# Altium schematic symbol library pi_powerhat.SchLib: 15 symbols
Pins are listed as number, name and electrical type; pins without a type are passive.

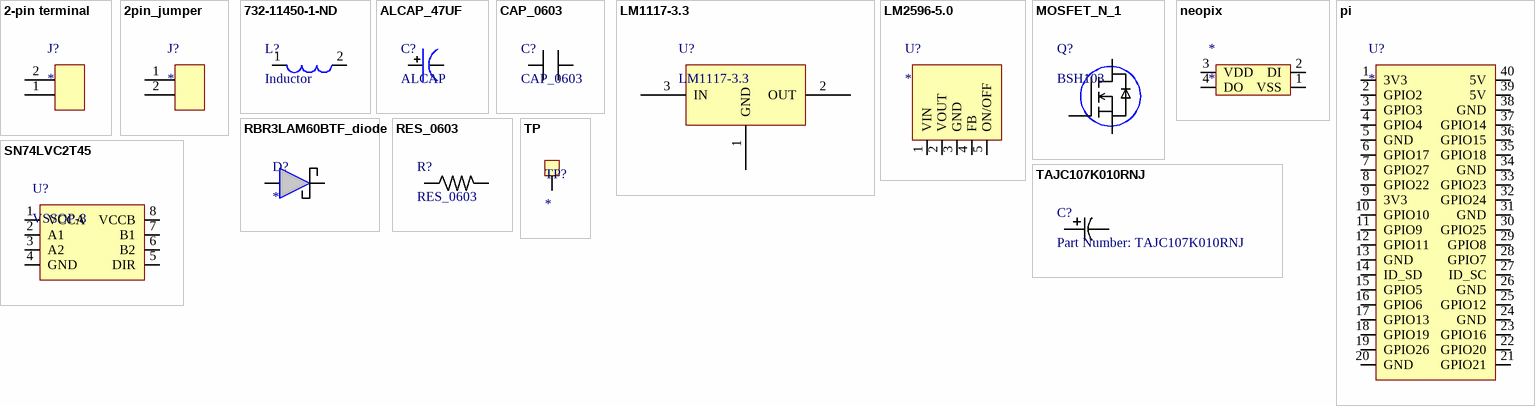
[diagram p0: symbols 2-pin terminal to TP]

## 2-pin terminal
designator J?
footprint 2-pin terminal
pins: 1, 2

## 2pin_jumper
designator J?
footprint 2pin_jumper
pins: 1, 2

## 732-11450-1-ND
designator L?, comment Inductor
ComponentLink1Description: 732-11450-1-ND; ComponentLink1URL: https://www.digikey.com/product-detail/en/w-rth-elektronik/744373965470/732-11450-1-ND/7323676
footprint 732-11450-1-ND
pins: 1, 2

## ALCAP_47UF
designator C?, comment ALCAP
ComponentLink1Description: EEUFR1J470; ComponentLink1URL: https://www.digikey.com/product-detail/en/panasonic-electronic-components/EEU-FR1J470/P15400-ND/3072280
footprint alcap-560uF
pins: 1, 2

## CAP_0603
designator C?
ComponentLink1Description: C0603C105K4RACTU; ComponentLink1URL: https://www.digikey.com/product-detail/en/kemet/C0603C105K4RACTU/399-7847-1-ND/3471570
footprint CAP_0603 (Chip Capacitor, 2-Leads, Body 1.60x0.80mm, IPC Medium Density)
pins: 1, 2

## LM1117-3.3
designator U?
footprint LM1117-3.3
pins: 1 GND, 2 OUT, 3 IN

## LM2596-5.0
designator U?
footprint lm2956-5.0
pins: 1 VIN, 2 VOUT, 3 GND, 4 FB, 5 ON/OFF

## MOSFET_N_1
designator Q?, comment BSH103
footprint bsh103_MOS (SOT23, 3-Leads, Body 2.90x2.30mm, Pitch 0.95mm, IPC Medium Density)
pins: 1 G, 2 D, 3 S

## neopix
designator *
footprint neopix
pins: 1 VSS, 2 DI, 3 VDD, 4 DO

## pi
designator U?
footprint pi
pins: 1 3V3, 2 GPIO2, 3 GPIO3, 4 GPIO4, 5 GND, 6 GPIO17, 7 GPIO27, 8 GPIO22, 9 3V3, 10 GPIO10, 11 GPIO9, 12 GPIO11, 13 GND, 14 ID_SD, 15 GPIO5, 16 GPIO6, 17 GPIO13, 18 GPIO19, 19 GPIO26, 20 GND, 21 GPIO21, 22 GPIO20, 23 GPIO16, 24 GND, 25 GPIO12, 26 GND, 27 ID_SC, 28 GPIO7, 29 GPIO8, 30 GPIO25, 31 GND, 32 GPIO24, 33 GPIO23, 34 GND, 35 GPIO18, 36 GPIO15, 37 GPIO14, 38 GND, 39 5V, 40 5V

## RBR3LAM60BTF_diode
designator D?
ComponentLink1Description: RBR3LAM60BTF; ComponentLink1URL: https://www.digikey.com/product-detail/en/rohm-semiconductor/RBR3LAM60BTFTR/RBR3LAM60BTFCT-ND/8702638
footprint RBR3LAM60BTF_diode (SODFL, 2-Leads, Body 2.50x4.70mm, IPC Medium Density)
pins: 1, 2

## RES_0603
designator R?
RES_0603 1/8 W
footprint RES_0603 (Chip Resistor, 2-Leads, Body 1.60x0.80mm, IPC Medium Density)
pins: 1, 2

## SN74LVC2T45
designator U?, comment VSSOP-8
footprint TSOP65P400X130-8M (TSOP, 8-Leads, Body 2.95x2.80mm, Pitch 0.65mm, IPC Low Density)
pins: 1 VCCA, 2 A1, 3 A2, 4 GND, 5 DIR, 6 B2, 7 B1, 8 VCCB

## TAJC107K010RNJ
designator C?, comment Part Number: TAJC107K010RNJ
No Description Available; Vendor: AVX Corporation; Built_By: EMA_UL_Team; Type: DEV; Manufacturer_Part_Number: TAJC107K010RNJ; Copyright: Copyright (C) 2018 Accelerated Designs. All rights reserved; RefDes: RefDes; Value: Value
footprint TAJC
pins: 1, 2

## TP
designator TP?
footprint TP
pins: 1